# Altium schematic symbol library DZ1_Bruncic_Vito.SchLib: 42 symbols
Pins are listed as number, name and electrical type; pins without a type are passive.

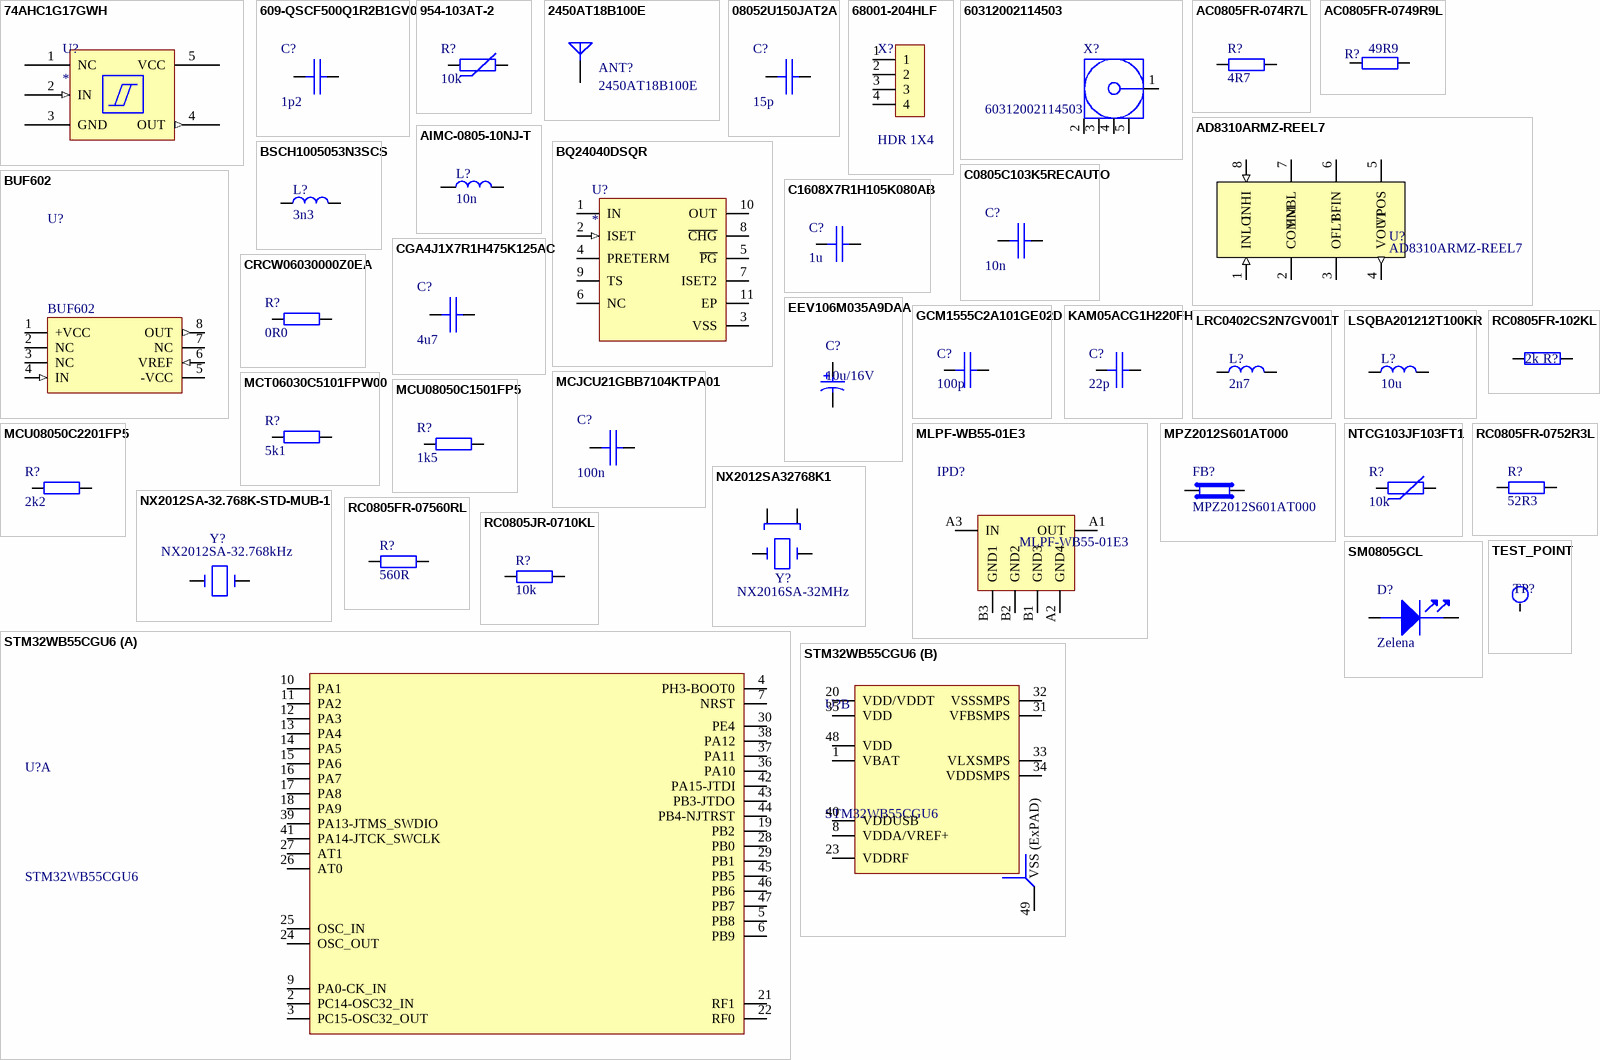
[diagram p0: symbols 74AHC1G17GWH to TEST_POINT]

## 74AHC1G17GWH
designator U?
Integrirani Schmittov okidni sklop; Kučište: 0805; Supplier 1: Farnell; Supplier Part Number 1: 74AHC1G17GWH
footprint SOT23 5pin
pins: 1 NC, 2 IN (in), 3 GND (power), 4 OUT (out), 5 VCC (power)

## 609-QSCF500Q1R2B1GV0
designator C?, comment 1p2
Kondenzator, C0G, 10%, 50VDC; Manufacturer: Johanson; Manufacturer Part Number: 500R07S1R2BV4T; Capacitance: 1.2pF; Value: 1.2pF; Category: Ceramic Capacitors; Case/Package: 0402; ComponentLink1Description: https://datasheet.ciiva.com/1461/1731432-1461669.pdf?src-supplier=Element14; Supplier 1: Mouser; Supplier Part Number 1: 609-500R07S1R2BV4T; Supplier 2: Arrow Electronics; Supplier Part Number 2: 500R07S1R2BV4T; Case: 0402
footprint CAPC100X50X55L25N (Capacitor, Chip; 1.00 mm L X 0.50 mm W X 0.55 mm H body)
footprint 0402
pins: 1, 2

## 954-103AT-2
designator R?, comment 10k
NTC Termistor, 1%; Supplier 1: DigiKey; Supplier Part Number 1: 4316-103AT-2-ND
footprint TH NTC (TH-2, 3,7x2,54 mm)
pins: 1, 2

## 2450AT18B100E
designator ANT?
Antena, 2.45GHz; Manufacturer: Johanson; Supplier 1: Mouser; Manufacturer Part Number: 2450AT18B100E; Category: RF Antennas; Case/Package: CSMD; ComponentLink1Description: https://datasheet.ciiva.com/24025/antenna-2450at18b100-242422-24025839.pdf?src-supplier=Mouser; Supplier Part Number 1: 609-2450AT18B100E
footprint ANTC320X160X140L50N (Antenna, Chip; 3.20 mm L X 1.60 mm W X 1.40 mm H body)
footprint ANT_2450AT18B100E
pins: 1

## 08052U150JAT2A
designator C?, comment 15p
Kondenzator, C0G, 10%, 160VDC; Manufacturer: Murata; Manufacturer Part Number: GRM21A5C2D150JW01D; Capacitance: 15pF; Value: 15pF; Kučište: 0805; Category: Ceramic Capacitors; Case/Package: 0805; ComponentLink1Description: http://components.arrow.com/part/dataview/0323_07284744?src-supplier=Arrow+Europe; Supplier 1: Mouser; Supplier Part Number 1: 81-GRM21A5C2D150JW1D; Supplier 2: Mouser; Supplier Part Number 2: 581-08052U150J
footprint CAPC200X125X95L45N (Capacitor, Chip; 2.00 mm L X 1.25 mm W X 0.95 mm H body)
footprint 0805
pins: 1, 2

## 68001-204HLF
designator X?, comment HDR 1X4
Header 1x4; Manufacturer: Amphenol FCI; Manufacturer Part Number: 68001-204HLF; Supplier 1: Mouser; Category: Headers and Wire Housings; ComponentLink1Description: https://datasheet.ciiva.com/5164/68000-274255-5164127.pdf?src-supplier=Mouser; Supplier Part Number 1: 649-68001-204HLF
footprint AMPHENOL_68001-204HLF (Header, Vertical Plug; 4 pin, 10.16 mm L X 2.41 mm W X 8.38 mm H body)
footprint HEADER 1X4
pins: 1, 2, 3, 4

## 60312002114503
designator X?
SMA priključak; Manufacturer: Wurth Electronics; Supplier 1: Mouser; Manufacturer Part Number: 60312002114503; Supplier Part Number 1: 710-60312002114503; Category: SMA Connector
footprint WURTH_60312002114503 (Coax; 5 pin, 7.00 mm L X 7.00 mm W X 9.56 mm H body)
footprint SMA
pins: 1, 2, 3, 4, 5

## AC0805FR-074R7L
designator R?, comment 4R7
Otpornik, 1%, 125mW; Manufacturer: Yageo; Manufacturer Part Number: AC0805FR-074R7L; Value: 4.7; Kučište: 0805; Supplier 1: Mouser; Category: Chip SMD Resistors; Case/Package: 0805; ComponentLink1Description: https://datasheet.ciiva.com/12577/pyu-ac-51-rohs-l-2-12577194.pdf?src-supplier=Mouser; Supplier Part Number 1: 603-AC0805FR-074R7L
footprint RESC200X125X60L40N (Resistor, Chip; 2.00 mm L X 1.25 mm W X 0.60 mm H body)
footprint 0805
pins: 1, 2

## AC0805FR-0749R9L
designator R?, comment 49R9
Otpornik, ±100ppm/C, 125mW; Manufacturer: Yageo; Manufacturer Part Number: AC0805FR-0749R9L; Value: 49,9; Kučište: 0805; Supplier 1: Mouser; Category: Chip SMD Resistors; Case/Package: 0805; ComponentLink1Description: http://www.yageo.com/NewPortal/yageodocoutput?fileName=/pdf/R-Chip/PYu-AC_51_RoHS_L_6.pdf&src-supplier=Digi-Key; Supplier Part Number 1: 603-AC0805FR-0749R9L
footprint RESC200X125X60L40N (Resistor, Chip; 2.00 mm L X 1.25 mm W X 0.60 mm H body)
footprint 0805
pins: 1, 2

## AD8310ARMZ-REEL7
designator U?
Logaritamsko pojačalo; Manufacturer: Analog Devices; Supplier 1: Mouser; Manufacturer Part Number: AD8310ARMZ-REEL7; Category: Amplifiers - Op Amps, Buffer, Instrumentation; Case/Package: MSOP; ComponentLink1Description: https://datasheet.ciiva.com/15128/getdatasheetpartid-243611-15128567.pdf?src-supplier=Verical; Supplier Part Number 1: 584-AD8310ARMZ-R7
footprint SOP8P65_300X490X110L60X32N (Small Outline Pkg (SOP), 0.65 mm pitch; 8 pin, 3.00 mm L X 3.00 mm W X 1.10 mm H body)
footprint MSOP
pins: 1 INLO (in) "One of Two Balanced Inputs. Biased roughly to VPOS/2.", 2 COMM "Common Pin. Usually grounded.", 3 OFLT "Offset Filter Access. Nominally at about 1.75 V.", 4 VOUT (out) "Low Impedance Output Voltage. Carries a 25 mA maximum load.", 5 VPOS (power) "Positive Supply. 2.7 V to 5.5 V at 8 mA quiescent current.", 6 BFIN "Buffer Input. Used to lower postdetection bandwidth.", 7 ENBL (power) "CMOS Compatible Chip Enable. Active when high.", 8 INHI (in) "Second of Two Balanced Inputs. Biased roughly to VPOS/2."

## AIMC-0805-10NJ-T
designator L?, comment 10n
Zavojnica, neoklopljena, +/-5%, 300mADC; Manufacturer: Abracon; Manufacturer Part Number: AIMC-0805-10NJ-T; Value: 10nH; Power Dissipation: 62.5mW; Temperature Coefficient: 400ppm/°C; Voltage Rating: 50V; Kučište: 0805; Supplier 1: Mouser; Category: Fixed Inductors; Case/Package: 0805; ComponentLink1Description: https://datasheet.octopart.com:443/MCMR04X000-PTL-Multicomp-datasheet-10850617.pdf?src-supplier=IHS; Supplier Part Number 1: 815-AIMC-0805-10NJT; Supplier: Farnell; Supplier Part Number: 2692041; RoHS: Compliant; Stock: 490000; Pricing: 10000=0.0033, 50000=0.0029 (GBP); Case Code (Imperial): 0402; Case Code (Metric): 1005; Composition: Ceramic; Contact Plating: Tin; Lifecycle Status: Production; Max Operating Temperature: 155°C; Min Operating Temperature: -55°C; Mounting Technology: Surface Mount; Number of Terminals: 2; Packaging: Cut Tape; Power Rating: 62.5mW; REACH SVHC: No; Voltage Rating (DC): 50V; ComponentLink1URL: https://datasheet.octopart.com:443/MCMR04X000-PTL-Multicomp-datasheet-10850617.pdf?src-supplier=IHS; ComponentLink2URL: https://datasheet.octopart.com:443/MCMR04X000-PTL-Multicomp-datasheet-99731353.pdf?src-supplier=Farnell; ComponentLink2Description: https://datasheet.octopart.com:443/MCMR04X000-PTL-Multicomp-datasheet-99731353.pdf?src-supplier=Farnell; ComponentLink3URL: https://datasheet.octopart.com:443/MCMR04X000-PTL-Multicomp-datasheet-15896274.pdf?src-supplier=Newark; ComponentLink3Description: https://datasheet.octopart.com:443/MCMR04X000-PTL-Multicomp-datasheet-15896274.pdf?src-supplier=Newark
footprint INDC200X125X105L50N (Inductor, Chip; 2.00 mm L X 1.25 mm W X 1.05 mm H body)
footprint 0805
pins: 1, 2

## BQ24040DSQR
designator U?
Li-Ion baterija, 800mA; Manufacturer_Name: Texas Instruments; Manufacturer_Part_Number: BQ24040DSQR; Datasheet Link: http://www.ti.com/lit/gpn/bq24040; Height: 0.8mm; Mouser Part Number: 595-BQ24040DSQR; Mouser Price/Stock: https://www.mouser.co.uk/ProductDetail/Texas-Instruments/BQ24040DSQR?qs=c7TMWs5treTJYvOlVMq%252B%2Fw%3D%3D; Arrow Part Number: BQ24040DSQR; Arrow Price/Stock: https://www.arrow.com/en/products/bq24040dsqr/texas-instruments?utm_currency=USD&region=nac; Supplier 1: Arrow Electronics; Supplier Part Number 1: BQ24040DSQR
footprint SON40P200X200X80-11N
footprint WSON-10
pins: 1 IN (power), 2 ISET (in), 3 VSS (power), 4 PRETERM, 5 ~{PG}, 6 NC, 7 ISET2, 8 ~{CHG}, 9 TS, 10 OUT (power), 11 EP

## BSCH1005053N3SCS
designator L?, comment 3n3
Zavojnica, neoklopljena, 400mADC; Manufacturer: Johanson; Manufacturer Part Number: L-07C3N3SV6T; Value: 3.3nH; Kučište: 0402; Category: Fixed Inductors; Case/Package: 0402; Supplier 1: Mouser; Supplier Part Number 1: 609-L-07C3N3SV6T; Supplier 2: Farnell; Supplier Part Number 2: 3773633
footprint INDC100X50X60L25N (Inductor, Chip; 1.00 mm L X 0.50 mm W X 0.60 mm H body)
footprint 0402
pins: 1, 2

## BUF602
designator U?
Integrirani Buffer; Manufacturer: Texas Instruments; Manufacturer Part Number: BUF602ID; Supplier 1: Mouser; Supplier Part Number 1: 595-BUF602ID; Category: Operational Amplifiers
footprint SOIC8P127_490X599X175L84X41N (Small Outline IC (SOIC), 1.27 mm pitch; 8 pin, 4.905 mm L X 3.895 mm W X 1.75 mm H body)
footprint MSOP
pins: 1 +VCC (power), 2 NC, 3 NC, 4 IN (in), 5 -VCC (power), 6 VREF (in), 7 NC, 8 OUT (out)

## C0805C103K5RECAUTO
designator C?, comment 10n
Kondenzator, C0G, 10%, 50VDC; Manufacturer: KEMET; Manufacturer Part Number: C0805C103K5RECAUTO; Capacitance: 10nF; Value: 10nF; Kučište: 0805; Supplier 1: Mouser; Case/Package: 0805; ComponentLink1Description: http://www.farnell.com/datasheets/2723804.pdf?src-supplier=Farnell; Supplier Part Number 1: 80-C0805C103K5RECAUT; Category: Ceramic Capacitors
footprint CAPC200X125X95L45N (Capacitor, Chip; 2.00 mm L X 1.25 mm W X 0.95 mm H body)
footprint 0805
pins: 1, 2

## C1608X7R1H105K080AB
designator C?, comment 1u
Kondenzator, X7R, 10%, 50VDC; Manufacturer: TDK; Manufacturer Part Number: C1608X7R1H105K080AB; Value: 1µF; Dielectric Material: Ceramic; Voltage Rating (DC): 50V; Kučište: 0603; Supplier: DigiKey; Supplier Part Number: 445-C1608X7R1H105K080ABCT-ND; Category: Ceramic Capacitors; Stock: 9450; Pricing: 1=0.21, 10=0.121, 50=0.0866, 100=0.076, 500=0.05824, 1000=0.05277 (USD); Height: 800µm; Length: 1.6mm; Lifecycle Status: Production; Max Operating Temperature: 125°C; Min Operating Temperature: -55°C; Mounting Technology: Surface Mount; Number of Terminals: 2; Width: 800µm; ComponentLink1URL: https://datasheet.octopart.com:443/C1608X7R1H105K080AB-TDK-datasheet-175423548.pdf?src-supplier=IHS; ComponentLink1Description: https://datasheet.octopart.com:443/C1608X7R1H105K080AB-TDK-datasheet-175423548.pdf?src-supplier=IHS
footprint 0603
pins: 1, 2

## CGA4J1X7R1H475K125AC
designator C?, comment 4u7
Kondenzator, C0G, 10%, 50VDC; Manufacturer: TDK; Manufacturer Part Number: CGA4J1X7R1H475K125AC; Capacitance: 4u7F; Value: 4u7F; Kučište: 0805; Supplier 1: Mouser; ComponentLink1Description: https://product.tdk.com/info/en/catalog/datasheets/mlcc_automotive_general_en.pdf?src-supplier=Digi-Key; Supplier Part Number 1: 810-CGA4J1X7R1H475K1; Category: Ceramic Capacitors; Case/Package: 0805
footprint CAPC200X125X95L45N (Capacitor, Chip; 2.00 mm L X 1.25 mm W X 0.95 mm H body)
footprint 0805
pins: 1, 2

## CRCW06030000Z0EA
designator R?, comment 0R0
Otpornik, 1%, 100mW; Kučište: 0402; Supplier 1: Farnell; Supplier Part Number 1: MCMR04X000 PTL
footprint 0603
pins: 1, 2

## EEV106M035A9DAA
designator C?, comment 10u/16V
Elektrolitski kondenzator, Ta, 10%, 16V; Supplier 1: DigiKey; Supplier Part Number 1: 478-13152-1-ND
footprint PNSC-EEE1CA100SR_N (Aluminum Electrolytic Capacitor, 2-Leads, Body 4.5x4.5mm, IPC Medium Density)
footprint 1210
pins: 1, 2

## GCM1555C2A101GE02D
designator C?, comment 100p
Kondenzator, C0G, 2%, 100VDC; Kučište: 0402; Supplier 1: DigiKey; Supplier Part Number 1: 490-GCM1555C2A101GE02DTR-ND
footprint 0402
pins: 1, 2

## KAM05ACG1H220FH
designator C?, comment 22p
Kondenzator, C0G, 1%, 50VDC; Kučište: 0402; Supplier 1: Mouser; Supplier Part Number 1: 581-KAM05ACG1H220FH
footprint 0402
pins: 1, 2

## LRC0402CS2N7GV001T
designator L?, comment 2n7
RF zavojnica, neoklopljena, 300mADC; Manufacturer: Johanson; Manufacturer Part Number: L-07C2N7SV6T; Value: 2.7nH; Kučište: 0402; Category: Fixed Inductors; Case/Package: 0402; ComponentLink1Description: https://datasheet.ciiva.com/1473/1168792-1473898.pdf?src-supplier=Element14; Supplier 1: Mouser; Supplier Part Number 1: 609-L-07C2N7SV6T; Supplier 2: DigiKey; Supplier Part Number 2: 712-LRC0402CS2N7GV001TCT-ND
footprint INDC100X50X60L25N (Inductor, Chip; 1.00 mm L X 0.50 mm W X 0.60 mm H body)
footprint 0402
pins: 1, 2

## LSQBA201212T100KR
designator L?, comment 10u
Zavojnica, neoklopljena, 500mADC,; Manufacturer: Murata; Manufacturer Part Number: LQM21FN100M70L; Value: 10uH; Kučište: 0805; Category: Fixed Inductors; Case/Package: 0805; ComponentLink1Description: https://datasheet.ciiva.com/18088/getdatasheetpartid-74214-18088963.pdf?src-supplier=Verical; Supplier 1: Avnet; Supplier Part Number 1: LQM21FN100M70L; Supplier 2: Mouser; Supplier Part Number 2: 81-LQM21FN100M70L
footprint INDC200X125X105L50N (Inductor, Chip; 2.00 mm L X 1.25 mm W X 1.05 mm H body)
footprint 0805
pins: 1, 2

## MCJCU21GBB7104KTPA01
designator C?, comment 100n
Kondenzator, X7R, 10%, 50VDC; Manufacturer: TDK; Manufacturer Part Number: C2012X7R1H104K125AE; Capacitance: 100nF; Value: 100nF; Kučište: 0805; Case/Package: 0805; ComponentLink1Description: https://datasheet.ciiva.com/29534/mlcc-commercial-soft-en-29534235.pdf?src-supplier=Digi-Key; Category: Ceramic Capacitors; Supplier 1: Mouser; Supplier Part Number 1: 963-MCJCU21GBB7104KT; Supplier 2: Mouser; Supplier Part Number 2: 810-C2012X7R1H104KAE
footprint CAPC200X125X95L45N (Capacitor, Chip; 2.00 mm L X 1.25 mm W X 0.95 mm H body)
footprint 0805
pins: 1, 2

## MCT06030C5101FPW00
designator R?, comment 5k1
Otpornik, ±100ppm/C, 100mW; Manufacturer: Yageo Group; Manufacturer Part Number: AC0603FR-075K1L; Value: 5.1kΩ; Temperature Coefficient: 100ppm/°C; Tolerance: 1%; Voltage Rating: 75V; Kučište: 0603; Supplier: RS; Supplier Part Number: 1978087; RoHS: Compliant; Category: Chip SMD Resistors; Stock: 3500; Pricing: 500=0.005, 2500=0.005, 5000=0.004, 7500=0.004, 10000=0.004 (GBP); Case/Package: 0603; Case Code (Imperial): 0603; Case Code (Metric): 1608; China RoHS: Non-Compliant; Composition: Thick Film; Features: Automotive AEC-Q200, Moisture Resistant; Height: 450µm; Length: 1.6mm; Lifecycle Status: Production; Max Operating Temperature: 155°C; Max Power Dissipation: 100mW; Min Operating Temperature: -55°C; Mounting Technology: Surface Mount; Number of Terminals: 2; Number of Terminations: 2; Packaging: Tape & Reel; Power Dissipation: 100mW; Power Rating: 100mW; REACH SVHC: Yes; Schedule B: 8533210045, 8533210045|8533210045|8533210045|8533210045|8533210045|8533210045|8533210045|8533210045|8533210045|8533210045|8533210045|8533210045|8533210045|8533210045|8533210045|8533210045|8533210045|8533210045|8533210045|8533210045|8533210045|8533210045|8533210045|85; Termination: SMD/SMT; Weight: 2.012816mg; Width: 800µm; Working Voltage: 75V; ComponentLink1URL: https://datasheet.octopart.com:443/AC0603FR-075K1L-Yageo-datasheet-182189377.pdf?src-supplier=IHS; ComponentLink1Description: https://datasheet.octopart.com:443/AC0603FR-075K1L-Yageo-datasheet-182189377.pdf?src-supplier=IHS; ComponentLink2URL: https://datasheet.octopart.com:443/AC0603FR-075K1L-Yageo-datasheet-86786639.pdf?src-supplier=Upverter; ComponentLink2Description: https://datasheet.octopart.com:443/AC0603FR-075K1L-Yageo-datasheet-86786639.pdf?src-supplier=Upverter; ComponentLink3URL: https://datasheet.octopart.com:443/AC0603FR-075K1L-Yageo-datasheet-178509465.pdf?src-supplier=Newark; ComponentLink3Description: https://datasheet.octopart.com:443/AC0603FR-075K1L-Yageo-datasheet-178509465.pdf?src-supplier=Newark; ComponentLink4URL: https://datasheet.octopart.com:443/AC0603FR-075K1L-Yageo-datasheet-151884373.pdf?src-supplier=Future+Electronics; ComponentLink4Description: https://datasheet.octopart.com:443/AC0603FR-075K1L-Yageo-datasheet-151884373.pdf?src-supplier=Future+Electronics; ComponentLink5URL: https://datasheet.octopart.com:443/AC0603FR-075K1L-Yageo-datasheet-166720450.pdf?src-supplier=Future+Electronics; ComponentLink5Description: https://datasheet.octopart.com:443/AC0603FR-075K1L-Yageo-datasheet-166720450.pdf?src-supplier=Future+Electronics; ComponentLink6URL: https://datasheet.octopart.com:443/AC0603FR-075K1L-Yageo-datasheet-137699919.pdf?src-supplier=Future+Electronics; ComponentLink6Description: https://datasheet.octopart.com:443/AC0603FR-075K1L-Yageo-datasheet-137699919.pdf?src-supplier=Future+Electronics; ComponentLink7URL: https://datasheet.octopart.com:443/AC0603FR-075K1L-Yageo-datasheet-128679721.pdf?src-supplier=X-ON; ComponentLink7Description: https://datasheet.octopart.com:443/AC0603FR-075K1L-Yageo-datasheet-128679721.pdf?src-supplier=X-ON; ComponentLink8URL: https://datasheet.octopart.com/AC0603FR-075K1L-Yageo-datasheet-12512238.pdf; ComponentLink8Description: https://datasheet.octopart.com/AC0603FR-075K1L-Yageo-datasheet-12512238.pdf; ComponentLink9URL: https://datasheet.octopart.com:443/AC0603FR-075K1L-Yageo-Group-datasheet-190301926.pdf?src-supplier=element14+APAC; ComponentLink9Description: https://datasheet.octopart.com:443/AC0603FR-075K1L-Yageo-Group-datasheet-190301926.pdf?src-supplier=element14+APAC; ComponentLink10URL: http://sigma.octopart.com:80/conflict_mineral_statement/Yageo-company-3.pdf?src-supplier=Compliance+Statements; ComponentLink10Description: http://sigma.octopart.com:80/conflict_mineral_statement/Yageo-company-3.pdf?src-supplier=Compliance+Statements; ComponentLink11URL: http://sigma.octopart.com:80/rohs_statement/Yageo-company-2.pdf?src-supplier=Compliance+Statements; ComponentLink11Description: http://sigma.octopart.com:80/rohs_statement/Yageo-company-2.pdf?src-supplier=Compliance+Statements; Supplier 1: RS; Supplier Part Number 1: 1978087
footprint FP-AC0603-IPC_C
footprint 0603
pins: 1, 2

## MCU08050C1501FP5
designator R?, comment 1k5
Otpornik, ±50ppm/C, 100mW; Kučište: 0805; ComponentLink5URL: https://datasheet.octopart.com:443/CRCW12061K50JNEA-Vishay-datasheet-21226360.pdf?src-supplier=Newark; ComponentLink5Description: https://datasheet.octopart.com:443/CRCW12061K50JNEA-Vishay-datasheet-21226360.pdf?src-supplier=Newark; ComponentLink8URL: https://datasheet.octopart.com:443/CRCW12061K50JNEA-Vishay-datasheet-24897302.pdf?src-supplier=Farnell; ComponentLink8Description: https://datasheet.octopart.com:443/CRCW12061K50JNEA-Vishay-datasheet-24897302.pdf?src-supplier=Farnell; ComponentLink9URL: https://datasheet.octopart.com:443/CRCW12061K50JNEA-Vishay-datasheet-62316122.pdf?src-supplier=Future+Electronics; ComponentLink9Description: https://datasheet.octopart.com:443/CRCW12061K50JNEA-Vishay-datasheet-62316122.pdf?src-supplier=Future+Electronics; ComponentLink10URL: https://datasheet.octopart.com:443/CRCW12061K50JNEA-Vishay-datasheet-5300368.pdf?src-supplier=Future+Electronics; ComponentLink10Description: https://datasheet.octopart.com:443/CRCW12061K50JNEA-Vishay-datasheet-5300368.pdf?src-supplier=Future+Electronics; ComponentLink11URL: https://datasheet.octopart.com:443/CRCW12061K50JNEA-Vishay-datasheet-137115460.pdf?src-supplier=X-ON; ComponentLink11Description: https://datasheet.octopart.com:443/CRCW12061K50JNEA-Vishay-datasheet-137115460.pdf?src-supplier=X-ON; ComponentLink12URL: https://datasheet.octopart.com:443/CRCW12061K50JNEA-Vishay-Dale-datasheet-47688880.pdf?src-supplier=RS+(Formerly+Allied+Electronics); ComponentLink12Description: https://datasheet.octopart.com:443/CRCW12061K50JNEA-Vishay-Dale-datasheet-47688880.pdf?src-supplier=RS+(Formerly+Allied+Electronics); ComponentLink13URL: https://datasheet.octopart.com:443/CRCW12061K50JNEA-Vishay-datasheet-12001583.pdf?src-supplier=RS+(Formerly+Allied+Electronics); ComponentLink13Description: https://datasheet.octopart.com:443/CRCW12061K50JNEA-Vishay-datasheet-12001583.pdf?src-supplier=RS+(Formerly+Allied+Electronics); ComponentLink14URL: https://datasheet.octopart.com:443/CRCW12061K50JNEA-Vishay-datasheet-5306405.pdf?src-supplier=RS+(Formerly+Allied+Electronics); ComponentLink14Description: https://datasheet.octopart.com:443/CRCW12061K50JNEA-Vishay-datasheet-5306405.pdf?src-supplier=RS+(Formerly+Allied+Electronics); ComponentLink15URL: https://datasheet.octopart.com:443/CRCW12061K50JNEA-Vishay-datasheet-11540273.pdf?src-supplier=Arrow+Electronics; ComponentLink15Description: https://datasheet.octopart.com:443/CRCW12061K50JNEA-Vishay-datasheet-11540273.pdf?src-supplier=Arrow+Electronics; ComponentLink16URL: https://datasheet.octopart.com:443/CRCW12061K50JNEA-Vishay-datasheet-8445837.pdf?src-supplier=element14; ComponentLink16Description: https://datasheet.octopart.com:443/CRCW12061K50JNEA-Vishay-datasheet-8445837.pdf?src-supplier=element14; ComponentLink17URL: https://datasheet.octopart.com:443/CRCW12061K50JNEA-Vishay-datasheet-5377184.pdf?src-supplier=Garrett; ComponentLink17Description: https://datasheet.octopart.com:443/CRCW12061K50JNEA-Vishay-datasheet-5377184.pdf?src-supplier=Garrett; ComponentLink18URL: https://datasheet.octopart.com:443/CRCW12061K50JNEA-Vishay-datasheet-148188.pdf?src-supplier=Garrett; ComponentLink18Description: https://datasheet.octopart.com:443/CRCW12061K50JNEA-Vishay-datasheet-148188.pdf?src-supplier=Garrett; ComponentLink19URL: https://datasheet.octopart.com:443/CRCW12061K50JNEA-Vishay-datasheet-41916.pdf?src-supplier=Garrett; ComponentLink19Description: https://datasheet.octopart.com:443/CRCW12061K50JNEA-Vishay-datasheet-41916.pdf?src-supplier=Garrett; ComponentLink20URL: http://sigma.octopart.com:80/rohs_statement/Vishay-company-15.pdf?src-supplier=Compliance+Statements; ComponentLink20Description: http://sigma.octopart.com:80/rohs_statement/Vishay-company-15.pdf?src-supplier=Compliance+Statements; Parameter 1: *; Supplier 1: Farnell; Supplier Part Number 1: MCU08050C1501FP500
footprint 0805
pins: 1, 2

## MCU08050C2201FP5
designator R?, comment 2k2
Otpornik, ±100ppm/C, 125mW; Manufacturer: Panasonic; Manufacturer Part Number: ERJ-PB6B2201V; Manufacturer Lifecycle Status: ACTIVE; Part Series: High Precision Thick Film Chip Resistors; Max Power Dissipation: 250mW; Value: 2.2kΩ; Temperature Coefficient: 50ppm/°C; Tolerance: 0.1%; Voltage Rating (DC): 150V; Kučište: 0805; Supplier: Farnell; Supplier Part Number: 4541375; RoHS: Compliant; Category: Chip SMD Resistors; Stock: 4030; Pricing: 10=0.0861, 100=0.0757, 500=0.0585, 1000=0.0534, 2500=0.0478, 5000=0.0422 (GBP); Case/Package: 0805; Case Code (Imperial): 0805; Case Code (Metric): 2012; Composition: Thick Film; Country of Origin: Japan; Export Control Classification Number (ECCN) Code: EAR99; Features: Automotive AEC-Q200; Height: 600µm; Height - Seated (Max): 711.2µm; Harmonized Tariff Schedule (HTS) Code: 8533.21.00.30; Introduction Date: 2016-02-25; Length: 2mm; Lifecycle Status: Production; Max Operating Temperature: 155°C; Min Operating Temperature: -55°C; Mounting Technology: Surface Mount; Number of Terminals: 2; Number of Terminations: 2; Power Dissipation: 250mW; Power Rating: 250mW; REACH SVHC: Yes; Schedule B: 8533210045, 8533210045|8533210045|8533210045|8533210045|8533210045; Width: 1.25mm; Working Voltage: 150V; ComponentLink1URL: https://datasheet.octopart.com:443/ERJ-PB6B2201V-Panasonic-datasheet-82522998.pdf?src-supplier=Panasonic; ComponentLink1Description: https://datasheet.octopart.com:443/ERJ-PB6B2201V-Panasonic-datasheet-82522998.pdf?src-supplier=Panasonic; ComponentLink2URL: https://datasheet.octopart.com:443/ERJPB6B2201V-Panasonic-datasheet-176289525.pdf?src-supplier=TME; ComponentLink2Description: https://datasheet.octopart.com:443/ERJPB6B2201V-Panasonic-datasheet-176289525.pdf?src-supplier=TME; ComponentLink3URL: https://sigma.octopart.com:443/150570796/technical_drawing/Panasonic-ERJPB6B2201V.pdf?src-supplier=Panasonic+SCT; ComponentLink3Description: https://sigma.octopart.com:443/150570796/technical_drawing/Panasonic-ERJPB6B2201V.pdf?src-supplier=Panasonic+SCT; ComponentLink4URL: https://datasheet.octopart.com:443/ERJPB6B2201V-Panasonic-datasheet-177212511.pdf?src-supplier=Burklin+Elektronik; ComponentLink4Description: https://datasheet.octopart.com:443/ERJPB6B2201V-Panasonic-datasheet-177212511.pdf?src-supplier=Burklin+Elektronik; Supplier 1: Farnell; Supplier Part Number 1: 4541375; Supplier 2: Farnell; Supplier Part Number 2: MCU08050C2201FP500
footprint 0805
pins: 1, 2

## MLPF-WB55-01E3
designator IPD?
RF Filtar, 2.4-2.5GHz; Manufacturer: STMicroelectronics; Supplier 1: Mouser; Manufacturer Part Number: MLPF-WB55-01E3; ComponentLink1Description: http://www.farnell.com/datasheets/2802556.pdf?src-supplier=Farnell; Supplier Part Number 1: 511-MLPF-WB55-01E3; Category: Integrated Passive Device
footprint ST_MLPF-WB55-01E3 (Amplifier; 6 pin, 1.60 mm L X 1.00 mm W X 0.40 mm H body)
footprint IPD
pins: A1 OUT, A2 GND4, A3 IN, B1 GND3, B2 GND2, B3 GND1

## MPZ2012S601AT000
designator FB?
Feritna perla, 600Ohm; Manufacturer: TDK; Kučište: 0805; Supplier 1: Mouser; Manufacturer Part Number: MPZ2012S601AT000; Category: Inductors; Case/Package: 0805; ComponentLink1Description: https://datasheet.ciiva.com/46634/beads-commercial-power-mpz-en-46634335.pdf?src-supplier=Digi-Key; Supplier Part Number 1: 810-MPZ2012S601AT000
footprint BEADC200X125X110L50N (Ferrite Bead, Chip; 2.00 mm L X 1.25 mm W X 1.10 mm H body)
footprint 0805
pins: 1, 2

## NTCG103JF103FT1
designator R?, comment 10k
NTC Termistor, 1%; Kučište: 0402; Supplier 1: Farnell; Supplier Part Number 1: NTCG103JF103FT1S
footprint 0402
pins: 1, 2

## NX2012SA32768K1
designator Y?, comment NX2016SA-32MHz
Kristalni oscilator 32KHz; Manufacturer: NDK; Manufacturer Part Number: NX2016SA-32MHZ-EXS00A-CS10925; Kučište: 0805; Category: Crystal; Supplier 1: DigiKey; Supplier Part Number 1: 644-1375-1-ND; Supplier 2: Mouser; Supplier Part Number 2: 344-NX2016SA32S06465
footprint OSCCC200X160X50L55X65N (Oscillator, Corner Concave; 2.00 mm L X 1.60 mm W X 0.50 mm H body)
footprint NX2016_4P
pins: 1, 2 GND, 3, 4 GND

## NX2012SA-32.768K-STD-MUB-1
designator Y?, comment NX2012SA-32.768kHz
Kristalni oscilator, 32.768KHz; Manufacturer: NDK; Manufacturer Part Number: NX2012SA-32.768KHZ-EXS00A-MU00626; Kučište: 0805; Case/Package: SMD/SMT; Category: Crystal; Supplier 1: Mouser; Supplier Part Number 1: 344-NX2012SA32768K1
footprint NDK_NX2012SA-32_768KHZ-EXS00A-MU00626 (Crystal; 2 pin, 2.05 mm L X 1.20 mm W X 0.40 mm H body)
footprint 0805
pins: 1, 2

## RC0805FR-102KL
designator R?, comment 2k
Otpornik, 1%, 125mW; Manufacturer: Yageo; Manufacturer Part Number: RC0805FR-102KL; Kučište: 0805; Supplier 1: Mouser; Supplier Part Number 1: 603-RC0805FR-102KL; Category: Resistors
footprint RESC200X125X60L40N (Resistor, Chip; 2.00 mm L X 1.25 mm W X 0.60 mm H body)
footprint 0805
pins: 1, 2

## RC0805FR-0752R3L
designator R?, comment 52R3
Otpornik, 1%, 125mW; Manufacturer: Yageo; Manufacturer Part Number: RC0805FR-0752R3L; Value: 52.3; Case/Package: 0805; Category: Chip SMD Resistors; Supplier 1: Mouser; Supplier Part Number 1: 603-RC0805FR-0752R3L; Case: 0805; Kučište: *
footprint RESC200X125X60L40N (Resistor, Chip; 2.00 mm L X 1.25 mm W X 0.60 mm H body)
footprint 0805
pins: 1, 2

## RC0805FR-07560RL
designator R?, comment 560R
Otpornik, 1%, 125mW; Manufacturer: Yageo; Manufacturer Part Number: RC0805FR-07560RL; Value: 560ohm; Kučište: 0805; Supplier 1: Mouser; Category: Chip SMD Resistors; Case/Package: 0805; ComponentLink1Description: https://datasheet.ciiva.com/5561/rc0805-5561861.pdf?src-supplier=Mouser; Supplier Part Number 1: 603-RC0805FR-07560RL
footprint RESC200X125X60L40N (Resistor, Chip; 2.00 mm L X 1.25 mm W X 0.60 mm H body)
pins: 1, 2

## RC0805JR-0710KL
designator R?, comment 10k
Otpornik, 5%, 125mW; Manufacturer: Yageo; Manufacturer Part Number: RC0805JR-0710KL; Kučište: 0805; Supplier 1: Mouser; Category: Chip SMD Resistors; Case/Package: 0805; ComponentLink1Description: https://datasheet.ciiva.com/7983/444164-7983765.pdf?src-supplier=Element14; Supplier Part Number 1: 603-RC0805JR-0710KL; Value: 10k
footprint RESC200X125X60L40N (Resistor, Chip; 2.00 mm L X 1.25 mm W X 0.60 mm H body)
footprint 0805
pins: 1, 2

## SM0805GCL
designator D?, comment Zelena
Dioda, svjetleća, 1,9V; Manufacturer: Bivar; Manufacturer Part Number: SM0805GCL; Kučište: 0805; Supplier 1: Mouser; Category: LEDs; Case/Package: 0805; ComponentLink1Description: https://datasheet.ciiva.com/16487/sm0805gcl-16487554.pdf?src-supplier=Future+Electronics; Supplier Part Number 1: 749-SM0805GCL
footprint LEDC200X120X80L30N (LED, Chip; 2.00 mm L X 1.20 mm W X 0.80 mm H body)
footprint 0805
pins: 1 Cathode, 2 Anode

## STM32WB55CGU6
designator U?
STM32 Mikrokontroler, 1,7-3,6V; Manufacturer: STMicroelectronics; Supplier 1: Mouser; Manufacturer Part Number: STM32WB55CGU6; ComponentLink1Description: http://www.farnell.com/datasheets/2792352.pdf?src-supplier=Farnell; Supplier Part Number 1: 511-STM32WB55CGU6; Category: Microcontroller; Case/Package: UFQFPN-48
footprint QFN49P50_700X700X60L40X25T560N (Quad Flat No-Lead (QFN) with tab, 0.50 mm pitch; square, 12 pin X 12 pin, 7.00 mm L X 7.00 mm W X 0.60 mm H body)
footprint STM32
part A pins: 2 PC14-OSC32_IN, 3 PC15-OSC32_OUT, 4 PH3-BOOT0, 5 PB8, 6 PB9, 7 NRST, 9 PA0-CK_IN, 10 PA1, 11 PA2, 12 PA3, 13 PA4, 14 PA5, 15 PA6, 16 PA7, 17 PA8, 18 PA9, 19 PB2, 21 RF1, 22 RF0, 24 OSC_OUT, 25 OSC_IN, 26 AT0, 27 AT1, 28 PB0, 29 PB1, 30 PE4, 36 PA10, 37 PA11, 38 PA12, 39 PA13-JTMS_SWDIO, 41 PA14-JTCK_SWCLK, 42 PA15-JTDI, 43 PB3-JTDO, 44 PB4-NJTRST, 45 PB5, 46 PB6, 47 PB7
part B pins: 1 VBAT (power), 8 VDDA/VREF+ (power), 20 VDD/VDDT (power), 23 VDDRF (power), 31 VFBSMPS (power), 32 VSSSMPS (power), 33 VLXSMPS (power), 34 VDDSMPS (power), 35 VDD (power), 40 VDDUSB (power), 48 VDD, 49 VSS (ExPAD)

## TEST_POINT
designator TP?
footprint TST_POINT
pins: 1

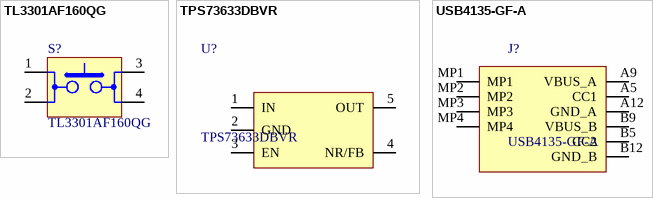
[diagram p1: symbols TL3301AF160QG to USB4135-GF-A]

## TL3301AF160QG
designator S?
Taktilni prekidač; Manufacturer: E-Switch; Supplier 1: Mouser; Manufacturer Part Number: TL3301AF160QG; Category: Tactile Switches; ComponentLink1Description: https://datasheet.ciiva.com/2900/p010516d-2900775.pdf?src-supplier=Digi-Key; Supplier Part Number 1: 612-TL3301AF1
footprint ESWITCH_TL3301AF160QG (Switch; 4 pin, 6.00 mm L X 6.00 mm W X 5.00 mm H body)
footprint SOP400P1000X525-4N
pins: 1, 2, 3, 4

## TPS73633DBVR
designator U?
IC Regulator, 3,3V, 400mADC; Manufacturer: Texas Instruments; Supplier 1: Mouser; Manufacturer Part Number: TPS73633DBVR; Category: Voltage Regulators - Linear; Case/Package: SOT-23; ComponentLink1Description: https://datasheet.ciiva.com/41462/001015026-da-01-en-ic-reg-ldo-3-3v-0-tps73633dbvr-sot-5-tid-41462871.pdf?src-supplier=Conrad; Supplier Part Number 1: 595-TPS73633DBVR
footprint SOT23-5P95_280X145L45X40N (Small Outline Transistor, SOT-23 Type, 0.95 mm pitch; 5 pin, 2.90 mm L X 1.60 mm W X 1.45 mm H body)
footprint SOT23 5pin
pins: 1 IN "Input supply", 2 GND "Ground", 3 EN "Driving the enable pin (EN) high turns on the regulator", 4 NR/FB "Connecting an external capacitor to this noise reduction pin bypasses noise generated by the internal bandgap, reducing output noise to very low levels", 5 OUT "Output of the regulator. There are no output capacitor requirements for stability"

## USB4135-GF-A
designator J?
USB-C priključak; Manufacturer_Name: GCT (GLOBAL CONNECTOR TECHNOLOGY); Geometry.Height: 3.5mm; Manufacturer_Part_Number: USB4135-GF-A; Mouser Part Number: 640-USB4135-GF-A; Mouser Price/Stock: https://www.mouser.co.uk/ProductDetail/GCT/USB4135-GF-A?qs=Li%252BoUPsLEnt6HRo6RUvaXA%3D%3D; Arrow Part Number: *; Arrow Price/Stock: *; Datasheet Link: https://ar.mouser.com/datasheet/2/837/usb4135-2930399.pdf; Supplier 1: Farnell; Supplier Part Number 1: 3946920
footprint USB4135GFA
footprint USB4135GFA
footprint USB4135GFA
pins: A5 CC1, A9 VBUS_A, A12 GND_A, B5 CC2, B9 VBUS_B, B12 GND_B, MP1, MP2, MP3, MP4